# EAGLE library part SC16C752 (library nxp-jlb)
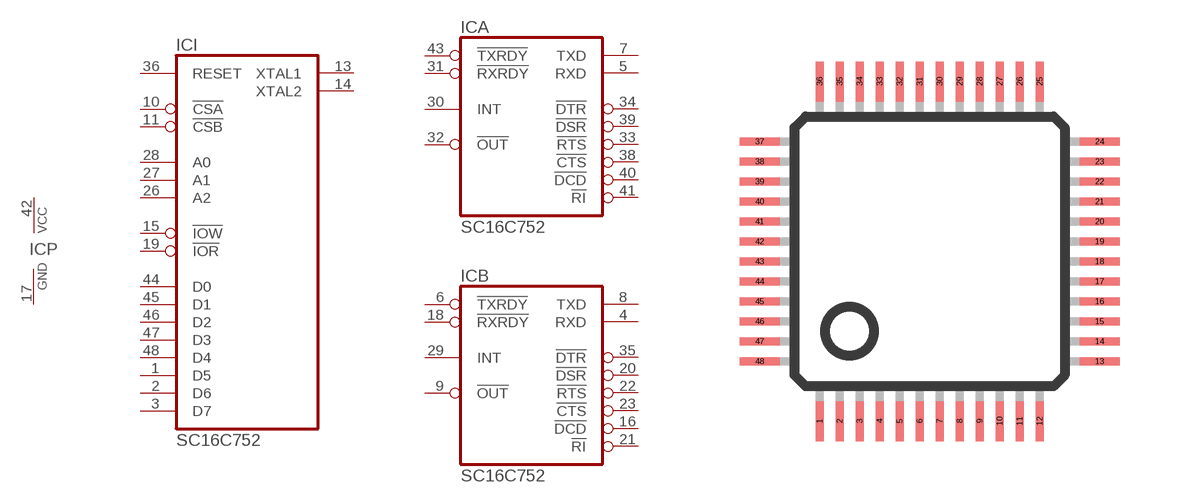
[diagram p0: symbol with the pads of LQFP48; footprint LQFP48]

Designator prefix IC; gates I=IFACE A=UART B=UART P=PWRN

## SC16C752  [LQFP48]
1  I:D5
2  I:D6
3  I:D7
4  B:RXD  in
5  A:RXD  in
6  B:!TXRDY  out
7  A:TXD  out
8  B:TXD  out
9  B:!OUT  out
10  I:!CSA  in
11  I:!CSB  in
13  I:XTAL1  in
14  I:XTAL2  in
15  I:!IOW  in
16  B:!DCD  in
17  P:GND  pwr
18  B:!RXRDY  out
19  I:!IOR  in
20  B:!DSR  in
21  B:!RI  in
22  B:!RTS  out
23  B:!CTS  in
26  I:A2  in
27  I:A1  in
28  I:A0  in
29  B:INT  out
30  A:INT  out
31  A:!RXRDY  out
32  A:!OUT  out
33  A:!RTS  out
34  A:!DTR  out
35  B:!DTR  out
36  I:RESET  in
38  A:!CTS  in
39  A:!DSR  in
40  A:!DCD  in
41  A:!RI  in
42  P:VCC  pwr
43  A:!TXRDY  out
44  I:D0
45  I:D1
46  I:D2
47  I:D3
48  I:D4

## Footprint LQFP48 (pad centres in mm)
48-pin plastic LQFP (FPT-48P-M26) www.fma.fujitsu.com/pdf/e713717.pdf
smd 0.2 x 1: 1 -2.75,-4.25; 2 -2.25,-4.25; 3 -1.75,-4.25; 4 -1.25,-4.25; 5 -0.75,-4.25; 6 -0.25,-4.25; 7 0.25,-4.25; 8 0.75,-4.25; 9 1.25,-4.25; 10 1.75,-4.25; 11 2.25,-4.25; 12 2.75,-4.25; 25 2.75,4.25; 26 2.25,4.25; 27 1.75,4.25; 28 1.25,4.25; 29 0.75,4.25; 30 0.25,4.25; 31 -0.25,4.25; 32 -0.75,4.25; 33 -1.25,4.25; 34 -1.75,4.25; 35 -2.25,4.25; 36 -2.75,4.25
smd 1 x 0.2: 13 4.25,-2.75; 14 4.25,-2.25; 15 4.25,-1.75; 16 4.25,-1.25; 17 4.25,-0.75; 18 4.25,-0.25; 19 4.25,0.25; 20 4.25,0.75; 21 4.25,1.25; 22 4.25,1.75; 23 4.25,2.25; 24 4.25,2.75; 37 -4.25,2.75; 38 -4.25,2.25; 39 -4.25,1.75; 40 -4.25,1.25; 41 -4.25,0.75; 42 -4.25,0.25; 43 -4.25,-0.25; 44 -4.25,-0.75; 45 -4.25,-1.25; 46 -4.25,-1.75; 47 -4.25,-2.25; 48 -4.25,-2.75